# EAGLE library part SMARTPRJ_PINHD-2X3 (library slave_board)
PIN HEADER
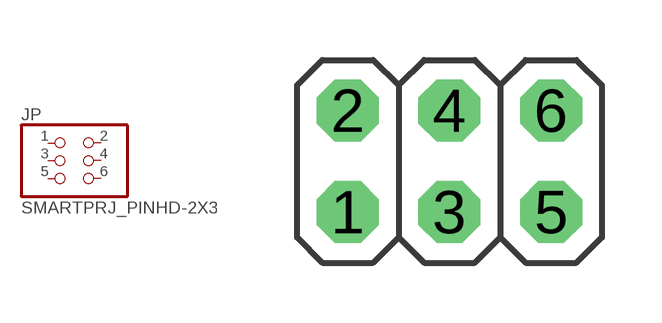
[diagram p4: symbol with the pads of SMARTPRJ_2X03; footprint SMARTPRJ_2X03]

Designator prefix JP

## SMARTPRJ_PINHD-2X3  [SMARTPRJ_2X03]
1  1  pas
2  2  pas
3  3  pas
4  4  pas
5  5  pas
6  6  pas

## Footprint SMARTPRJ_2X03 (pad centres in mm)
PIN HEADER
drill 0.95 pad 1.55 octagon: 1 -2.54,-1.27; 2 -2.54,1.27; 3 0,-1.27; 4 0,1.27; 5 2.54,-1.27; 6 2.54,1.27